# Altium footprint library 5013311007.PcbLib: 1 footprints
Each footprint in its own frame and in the unit in brackets; x right, y up, seen from the top. Pads: shape width x height; smd on the part's side, far side on the other; paste and mask are expansions set on the pad; w line width, h text height; cw(c..) or ccw(c..) is an arc to the next point about the centre after c.
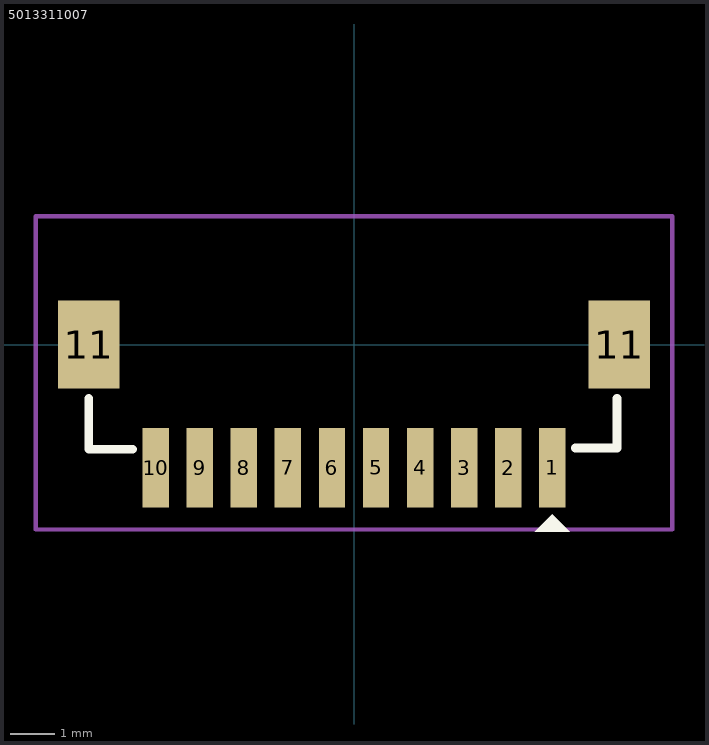
[diagram p0: the footprint, top view; thin cyan lines are the x and y axes]

## 5013311007 [mm]
pads (12):
  rect 0.6x1.8 smd: 1(4.5,-2.8) 2(3.5,-2.8) 3(2.5,-2.8) 4(1.5,-2.8) 5(0.5,-2.8) 6(-0.5,-2.8) 7(-1.5,-2.8) 8(-2.5,-2.8) 9(-3.5,-2.8) 10(-4.5,-2.8)
  rect 1.4x2 smd: 11(-6.025,0) 11(6.025,0)
Top Overlay:
  region: 4.9,-4.25 4.1,-4.25 4.5,-3.85
  lines w0.2: -6.025,-1.225 -6.025,-2.375 -5.025,-2.375 ; 5.025,-2.35 5.975,-2.35 5.975,-1.225
Top Courtyard:
  lines w0.1: -7.225,-1 -7.225,-4.2 ; -7.225,-4.2 7.225,-4.2 7.225,2.913 -7.225,2.913 -7.225,-4.2
3D body "5013311007.stp": height 5.52, standoff -0.03, extent -6.145,-2.935 6.095,2.415